# Altium footprint library PcbLib1.PcbLib: 35 footprints (part 2 of 3)
Each footprint in its own frame and in the unit in brackets; x right, y up, seen from the top. Pads: shape width x height; smd on the part's side, far side on the other; paste and mask are expansions set on the pad; w line width, h text height; cw(c..) or ccw(c..) is an arc to the next point about the centre after c.
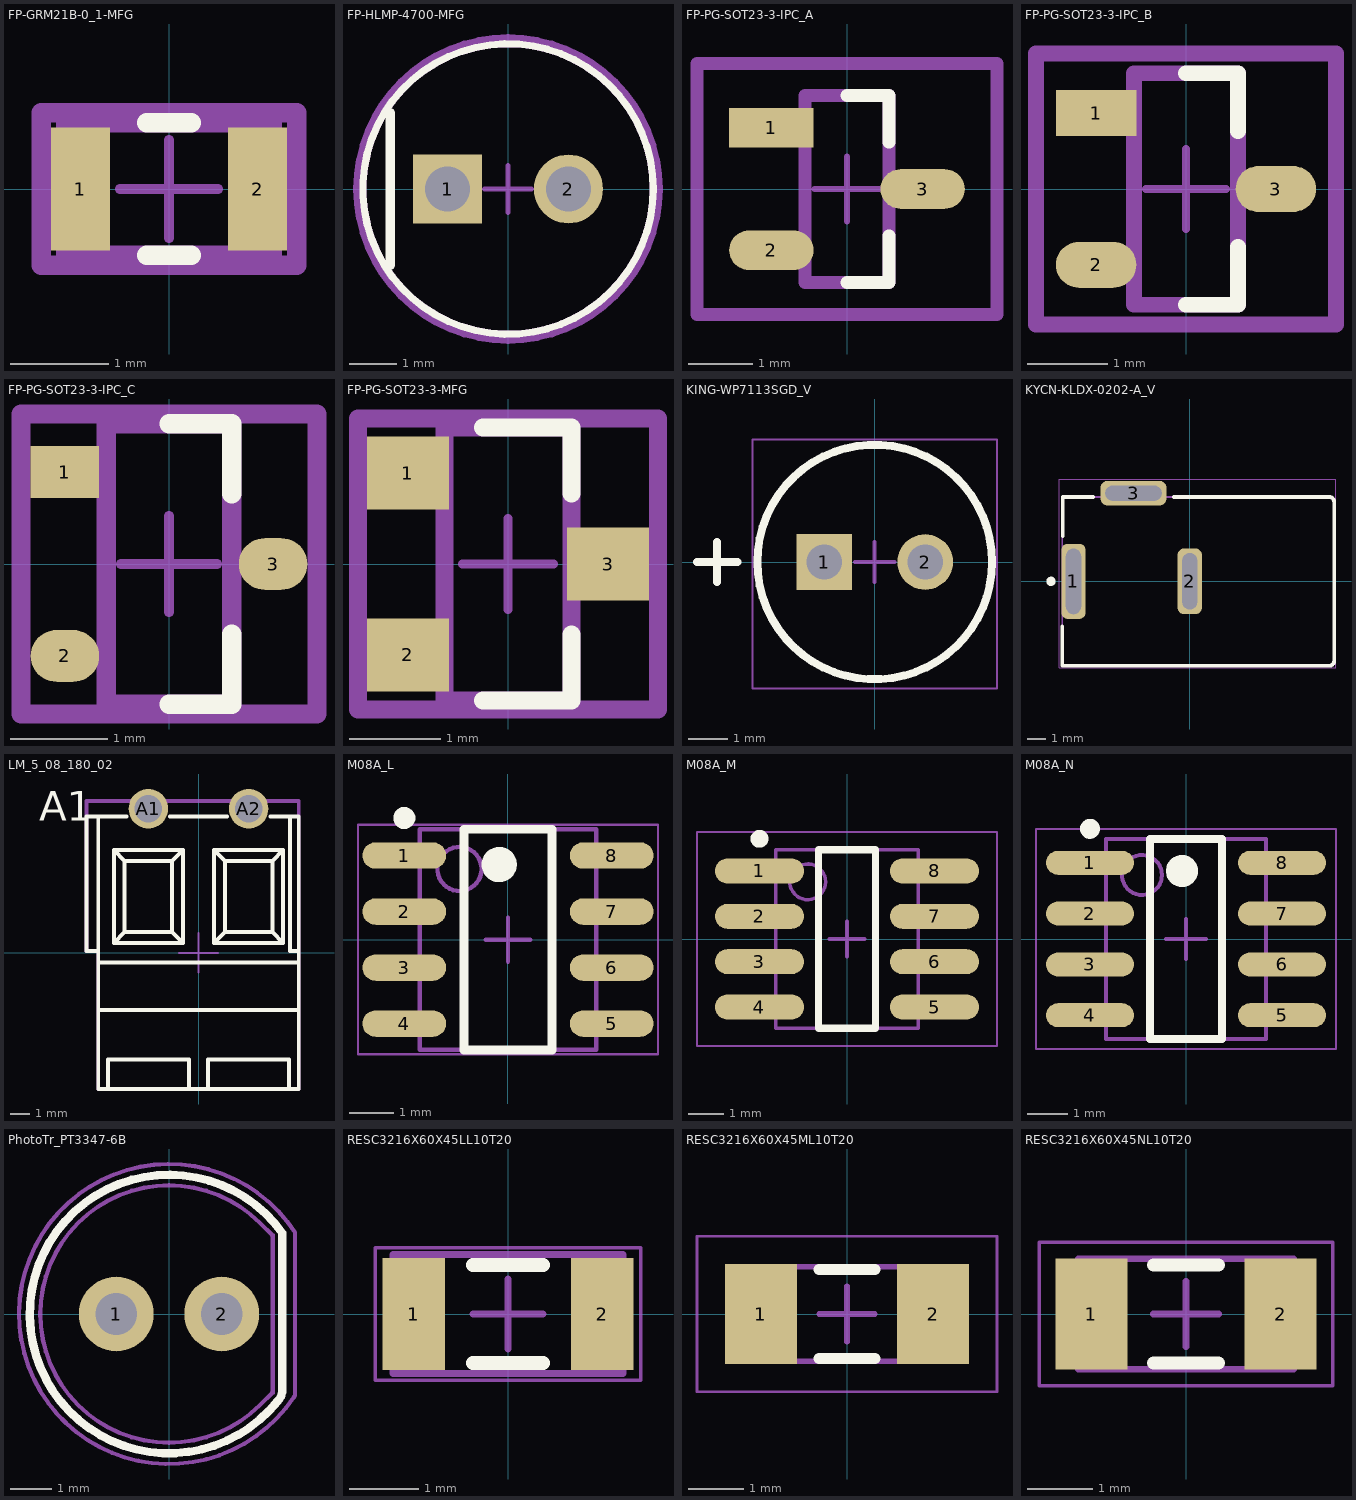
[diagram p1: the footprints below, top view; thin cyan lines are the x and y axes]

## FP-GRM21B-0_1-MFG [mm]
pads (2):
  rect 0.6x1.25 smd paste+0 mask+0: 1(-0.9,0) 2(0.9,0)
Top Overlay:
  lines w0.2: -0.225,-0.675 0.225,-0.675 ; -0.225,0.675 0.225,0.675
Top Assembly:
  lines w0.2: -1.3,-0.775 1.3,-0.775 1.3,0.775 -1.3,0.775 -1.3,-0.775
  text ".Designator" at 0,0.188 h1
Top 3D Body:
  lines w0.2: -1.05,-0.675 1.05,-0.675 1.05,0.675 -1.05,0.675 -1.05,-0.675
Top Courtyard:
  lines w0.2: -1.3,-0.775 1.3,-0.775 1.3,0.775 -1.3,0.775 -1.3,-0.775
Top Component Center:
  lines w0.1: -0.5,0 0.5,0 ; 0,-0.5 0,0.5
3D body "Cap_Murata_GRM21BR61C106KE15K_eec.STEP": height 0.25, standoff 0, extent -1.3,-0.775 1.3,0.775

## FP-HLMP-4700-MFG [mm]
pads (2):
  rect 1.45x1.45 hole 0.95 paste-2539.97 mask+0: 1(-1.27,0)
  round 1.45 hole 0.95 paste-2539.97 mask+0: 2(1.27,0)
Top Overlay:
  circle w0.15: c0,0 r3.05
  lines w0.2: -2.475,-1.6 -2.475,1.6
Top Assembly:
  text ".Designator" at 0,0.188 h1
Top 3D Body:
  circle w0.15: c0,0 r3.05
Top Courtyard:
  lines w0.2: -3.15,0 cw(c0,0) 3.15,0 cw(c0,0) -3.15,0
Top Component Center:
  lines w0.1: -0.5,0 0.5,0 ; 0,-0.5 0,0.5
3D body "Diode_Broadcom_HLMP-4700_eec.STEP": height 0.25, standoff 0, extent -3.15,-3.15 3.15,3.15

## FP-PG-SOT23-3-IPC_A [mm]
pads (3):
  rect 1.308x0.616 smd paste+0 mask+0: 1(-1.175,0.95)
  rrect100% 1.308x0.616 smd paste+0 mask+0: 2(-1.175,-0.95) 3(1.175,0)
Top Overlay:
  lines w0.2: 0,-1.45 0.65,-1.45 0.65,-0.725 ; 0,1.45 0.65,1.45 0.65,0.725
Top Assembly:
  lines w0.2: -2.329,-1.95 -2.329,1.95 2.329,1.95 2.329,-1.95 -2.329,-1.95
  text ".Designator" at 0,-0.001 h1
Top 3D Body:
  lines w0.2: -0.65,-1.45 -0.65,1.45 0.65,1.45 0.65,-1.45 -0.65,-1.45
Top Courtyard:
  lines w0.2: -2.329,-1.95 -2.329,1.95 2.329,1.95 2.329,-1.95 -2.329,-1.95
Top Component Center:
  lines w0.1: -0.5,0 0.5,0 ; 0,-0.5 0,0.5

## FP-PG-SOT23-3-IPC_B [mm]
pads (3):
  rect 1.008x0.576 smd paste+0 mask+0: 1(-1.125,0.95)
  rrect100% 1.008x0.576 smd paste+0 mask+0: 2(-1.125,-0.95) 3(1.125,0)
Top Overlay:
  lines w0.2: 0,-1.45 0.65,-1.45 0.65,-0.725 ; 0,1.45 0.65,1.45 0.65,0.725
Top Assembly:
  lines w0.2: -1.879,-1.7 1.879,-1.7 1.879,1.7 -1.879,1.7 -1.879,-1.7
  text ".Designator" at 0,-0.001 h1
Top 3D Body:
  lines w0.2: -0.65,-1.45 0.65,-1.45 0.65,1.45 -0.65,1.45 -0.65,-1.45
Top Courtyard:
  lines w0.2: -1.879,-1.7 1.879,-1.7 1.879,1.7 -1.879,1.7 -1.879,-1.7
Top Component Center:
  lines w0.1: -0.5,0 0.5,0 ; 0,-0.5 0,0.5

## FP-PG-SOT23-3-IPC_C [mm]
pads (3):
  rect 0.708x0.536 smd paste+0 mask+0: 1(-1.075,0.95)
  rrect100% 0.708x0.536 smd paste+0 mask+0: 2(-1.075,-0.95) 3(1.075,0)
Top Overlay:
  lines w0.2: 0,-1.45 0.65,-1.45 0.65,-0.725 ; 0,1.45 0.65,1.45 0.65,0.725
Top Assembly:
  lines w0.2: -1.529,-1.55 1.529,-1.55 1.529,1.55 -1.529,1.55 -1.529,-1.55
  text ".Designator" at 0,-0.001 h1
Top 3D Body:
  lines w0.2: -0.65,-1.45 0.65,-1.45 0.65,1.45 -0.65,1.45 -0.65,-1.45
Top Courtyard:
  lines w0.2: -1.529,-1.55 1.529,-1.55 1.529,1.55 -1.529,1.55 -1.529,-1.55
Top Component Center:
  lines w0.1: -0.5,0 0.5,0 ; 0,-0.5 0,0.5

## FP-PG-SOT23-3-MFG [mm]
pads (3):
  rect 0.9x0.8 smd paste+0 mask+0: 1(-1.1,1) 2(-1.1,-1) 3(1.1,0)
Top Overlay:
  lines w0.2: -0.275,-1.5 0.7,-1.5 0.7,-0.775 ; -0.275,1.5 0.7,1.5 0.7,0.775
Top Assembly:
  lines w0.2: -1.65,-1.6 1.65,-1.6 1.65,1.6 -1.65,1.6 -1.65,-1.6
  text ".Designator" at 0,-0.001 h1
Top 3D Body:
  lines w0.2: -0.7,-1.5 0.7,-1.5 0.7,1.5 -0.7,1.5 -0.7,-1.5
Top Courtyard:
  lines w0.2: -1.65,-1.6 1.65,-1.6 1.65,1.6 -1.65,1.6 -1.65,-1.6
Top Component Center:
  lines w0.1: -0.5,0 0.5,0 ; 0,-0.5 0,0.5
3D body "Trans_Infineon_2N7002H6327XTSA2_eec.STEP": height 0.25, standoff 0, extent -1.65,-1.6 1.65,1.6

## KING-WP7113SGD_V [mm] "THD, 2-Leads, Dia 5.9mm, Body Length 8.6mm"
height 15.5
pads (2):
  rect 1.4x1.4 hole 0.889: 1(-1.27,0)
  round 1.4 hole 0.889: 2(1.27,0)
Top Overlay:
  circle w0.2: c0,0 r2.95
  lines w0.2: -4.466,0 -3.45,0 ; -3.958,-0.508 -3.958,-0.254 -3.958,0.254 -3.958,0.508
Top 3D Body:
  circle w0.1: c0,0 r2.95
Top Courtyard:
  lines w0.05: -3.075,-3.175 3.075,-3.175 3.075,3.075 -3.075,3.075 -3.075,-3.175
  lines w0.1: -0.5,0 0.5,0 ; 0,-0.5 0,0.5
3D body "WP7113.STEP": height 15.5, standoff -20.1, extent -2.95,-2.95 2.5,2.95

## KYCN-KLDX-0202-A_V [mm] "Power Jack, 3-Leads, Body 14.5x9mm"
height 11.1
pads (3):
  rrect50% 1.3x4 hole 0.8 slot 3.5 at 90 deg: 1(-6.2,0)
  rrect50% 1.3x3.5 hole 0.8 slot 3 at 90 deg: 2(0,0)
  rrect50% 3.5x1.3 hole 0.8 slot 3 at 0 deg: 3(-3,4.7)
Top Overlay:
  circle w0.25: c-7.4,0 r0.125
  lines w0.2: -6.8,-4.5 -6.8,-2.4 ; -6.78,-4.5 7.45,-4.5 ccw(c7.45,-4.25) 7.7,-4.25 7.7,4.25 ccw(c7.45,4.25) 7.45,4.5 -0.85,4.5 ; -6.78,2.4 -6.78,4.5 -5.15,4.5
Top 3D Body:
  lines w0.1: -6.8,-4.5 -6.8,4.5 7.45,4.5 cw(c7.45,4.25) 7.7,4.25 7.7,-4.25 cw(c7.45,-4.25) 7.45,-4.5 -6.8,-4.5
Top Courtyard:
  lines w0.05: -6.95,-4.6 7.8,-4.6 7.8,5.45 -6.95,5.45 -6.95,-4.6
  lines w0.1: -0.5,0 0.5,0 ; 0,-0.5 0,0.5
3D body "KLDX-0202-A_rD2.STEP": height 10.8, standoff -4.1, extent -6.8,-4.5 7.7,4.9

## LM_5_08_180_02 [mm] "OMNIMATE Signal - Serie LM  LM 5.08/02/180 3.5"
height 10
pads (2):
  round 2 hole 1.4: A1(-2.54,7.3) A2(2.54,7.3)
Top Overlay:
  lines w0.2: -5.08,-3.107 -5.08,-6.9 ; -5.08,-3.106 -5.08,-3.101 ; -5.08,-3.098 -5.08,6.9 ; -5.08,-2.9 5.08,-2.9 ; -5.08,-0.498 5.08,-0.498 ; -5.08,0.1 -5.68,0.1 -5.68,6.9 -3.64,6.9 -5.08,6.9 ; 4.63,6.9 4.63,0.1 5.08,0.1 ; 5.08,-3.107 5.08,-6.9 ; 5.08,-3.106 5.08,-3.101 ; 5.08,-3.098 5.08,6.9 ; -5.08,-6.9 -5.08,6.9 ; -5.08,-6.9 5.08,-6.9 ; -4.29,0.5 -0.79,0.5 ; -4.29,0.5 -3.744,1.046 ; -4.29,0.5 -4.29,5.2 ; -4.29,5.2 -3.744,4.654 ; -4.29,5.2 -0.79,5.2 ; -3.744,1.046 -1.336,1.046 ; -3.744,1.046 -3.744,4.654 ; -3.744,4.654 -1.336,4.654 ; -1.336,1.046 -0.79,0.5 ; -1.336,1.046 -1.336,4.654 ; -1.336,4.654 -0.79,5.2 ; -0.79,0.5 -0.79,5.2 ; 0.79,0.5 4.29,0.5 ; 0.79,0.5 1.336,1.046 ; 0.79,0.5 0.79,5.2 ; 0.79,5.2 1.336,4.654 ; 0.79,5.2 4.29,5.2 ; 1.336,1.046 3.744,1.046 ; 1.336,1.046 1.336,4.654 ; 1.336,4.654 3.744,4.654 ; 3.744,1.046 4.29,0.5 ; 3.744,1.046 3.744,4.654 ; 3.744,4.654 4.29,5.2 ; 4.29,0.5 4.29,5.2 ; 4.59,-6.9 4.59,-5.4 ; 4.59,-6.9 4.59,-5.4 ; 4.59,-6.9 0.49,-6.9 0.49,-5.4 4.59,-5.4 ; 5.08,-6.9 5.08,6.9 ; 5.08,6.9 3.64,6.9 5.08,6.9 ; -4.59,-6.9 -4.59,-5.4 -0.49,-5.4 -0.49,-6.9 -4.59,-6.9 ; -1.44,6.9 1.44,6.9 -1.44,6.9
  text "A1" at -8.07,6.7 h1.5
Top Courtyard:
  lines w0.1: -1,0 1,0 ; 0,-1 0,1 ; 5.08,-1 5.08,1
  lines w0.2: -5.08,-3.107 -5.08,-6.9 5.08,-6.9 5.08,-3.107 ; -5.08,-3.098 -5.08,0.1 -5.68,0.1 -5.68,7.7 5.08,7.7 5.08,-3.098
3D body "LM_5.08_2_180_3.5_OR_1716100000.stp": height 10.01, standoff -3.49, extent -5.68,-6.9 5.08,7.7

## M08A_L [mm] "SOIC, 8-Leads, Body 4.9x3.9mm, Pitch 1.27mm, IPC High Density"
height 1.75
pads (8):
  oval 1.9x0.6 smd: 1(-2.35,1.905) 2(-2.35,0.635) 3(-2.35,-0.635) 4(-2.35,-1.905) 5(2.35,-1.905) 6(2.35,-0.635) 7(2.35,0.635) 8(2.35,1.905)
Top Overlay:
  circle w0.4: c-0.2,1.7 r0.2
  circle w0.25: c-2.35,2.755 r0.125
  lines w0.2: -1,-2.5 1,-2.5 1,2.5 -1,2.5 -1,-2.5
Top 3D Body:
  circle w0.1: c-1.1,1.6 r0.5
  lines w0.1: -2,-2.5 2,-2.5 2,2.5 -2,2.5 -2,-2.5
Top Courtyard:
  lines w0.05: -3.4,-2.6 3.4,-2.6 3.4,2.6 -3.4,2.6 -3.4,-2.6
  lines w0.1: -0.5,0 0.5,0 ; 0,-0.5 0,0.5
3D body: height 1.75, standoff 0.1, extent -2,-2.5 2,2.5

## M08A_M [mm] "SOIC, 8-Leads, Body 4.9x3.9mm, Pitch 1.27mm, IPC Low Density"
height 1.75
pads (8):
  oval 2.5x0.7 smd: 1(-2.45,1.905) 2(-2.45,0.635) 3(-2.45,-0.635) 4(-2.45,-1.905) 5(2.45,-1.905) 6(2.45,-0.635) 7(2.45,0.635) 8(2.45,1.905)
Top Overlay:
  circle w0.25: c-2.45,2.805 r0.125
  lines w0.2: -0.8,-2.5 0.8,-2.5 0.8,2.5 -0.8,2.5 -0.8,-2.5
Top 3D Body:
  circle w0.1: c-1.1,1.6 r0.5
  lines w0.1: -2,-2.5 2,-2.5 2,2.5 -2,2.5 -2,-2.5
Top Courtyard:
  lines w0.05: -4.2,-3 4.2,-3 4.2,3 -4.2,3 -4.2,-3
  lines w0.1: -0.5,0 0.5,0 ; 0,-0.5 0,0.5
3D body: height 1.75, standoff 0.1, extent -2,-2.5 2,2.5

## M08A_N [mm] "SOIC, 8-Leads, Body 4.9x3.9mm, Pitch 1.27mm, IPC Medium Density"
height 1.75
pads (8):
  oval 2.2x0.6 smd: 1(-2.4,1.905) 2(-2.4,0.635) 3(-2.4,-0.635) 4(-2.4,-1.905) 5(2.4,-1.905) 6(2.4,-0.635) 7(2.4,0.635) 8(2.4,1.905)
Top Overlay:
  circle w0.4: c-0.1,1.7 r0.2
  circle w0.25: c-2.4,2.755 r0.125
  lines w0.2: -0.9,-2.5 0.9,-2.5 0.9,2.5 -0.9,2.5 -0.9,-2.5
Top 3D Body:
  circle w0.1: c-1.1,1.6 r0.5
  lines w0.1: -2,-2.5 2,-2.5 2,2.5 -2,2.5 -2,-2.5
Top Courtyard:
  lines w0.05: -3.75,-2.75 3.75,-2.75 3.75,2.75 -3.75,2.75 -3.75,-2.75
  lines w0.1: -0.5,0 0.5,0 ; 0,-0.5 0,0.5
3D body: height 1.75, standoff 0.1, extent -2,-2.5 2,2.5

## PhotoTr_PT3347-6B [mm]
height 10.4
pads (2):
  round 1.8 hole 1: 1(-1.27,0) 2(1.27,0)
Top Overlay:
  lines w0.2: 2.619,-2.095 ccw(c2.353,-1.829) 2.729,-1.829 2.729,1.95 ccw(c0,0) 2.619,-2.095
Top Assembly:
  lines w0.1: 2.473,-1.911 cw(c2.5,-1.938) 2.5,-1.9 ; 2.473,1.911 ccw(c2.5,1.938) 2.5,1.9 ; 2.192,-2.192 cw(c0,0) 2.192,2.192 2.5,1.884 2.5,-1.884 2.192,-2.192
Top Courtyard:
  lines w0.1: 3.006,-2.004 ccw(c2.934,-1.932) 3.036,-1.932 3.036,1.958 ccw(c0,0) 3.006,-2.004
3D body: height 2.7, standoff 1.5, extent -3.1,-3.11 2.5,3.11
3D body: height 11.9, standoff 1.5, extent -2.5,-2.5 2.5,2.5

## RESC3216X60X45LL10T20 [mm] "Chip Resistor, 2-Leads, Body 3.20x1.60mm, IPC High Density"
height 0.6
pads (2):
  rect 0.9x1.6 smd: 1(-1.35,0) 2(1.35,0)
Top Overlay:
  lines w0.2: -0.5,-0.7 0.5,-0.7 ; -0.5,0.7 0.5,0.7
Top 3D Body:
  lines w0.1: -1.65,-0.85 -1.65,0.85 1.65,0.85 1.65,-0.85 -1.65,-0.85
Top Courtyard:
  lines w0.05: -1.9,-0.95 -1.9,0.95 1.9,0.95 1.9,-0.95 -1.9,-0.95
  lines w0.1: -0.5,0 0.5,0 ; 0,-0.5 0,0.5
3D body: height 0.6, standoff 0, extent -1.2,-0.85 1.2,0.85
3D body: height 0.6, standoff 0, extent -1.65,-0.85 -1.2,0.85
3D body: height 0.6, standoff 0, extent 1.2,-0.85 1.65,0.85

## RESC3216X60X45ML10T20 [mm] "Chip Resistor, 2-Leads, Body 3.20x1.60mm, IPC Low Density"
height 0.6
pads (2):
  rect 1.3x1.8 smd: 1(-1.55,0) 2(1.55,0)
Top Overlay:
  lines w0.2: -0.5,-0.8 0.5,-0.8 ; -0.5,0.8 0.5,0.8
Top 3D Body:
  lines w0.1: -1.65,-0.85 1.65,-0.85 1.65,0.85 -1.65,0.85 -1.65,-0.85
Top Courtyard:
  lines w0.05: -2.7,-1.4 2.7,-1.4 2.7,1.4 -2.7,1.4 -2.7,-1.4
  lines w0.1: -0.5,0 0.5,0 ; 0,-0.5 0,0.5
3D body: height 0.6, standoff 0, extent 1.2,-0.85 1.65,0.85
3D body: height 0.6, standoff 0, extent -1.65,-0.85 -1.2,0.85
3D body: height 0.6, standoff 0, extent -1.2,-0.85 1.2,0.85

## RESC3216X60X45NL10T20 [mm] "Chip Resistor, 2-Leads, Body 3.20x1.60mm, IPC Medium Density"
height 0.6
pads (2):
  rect 1.1x1.7 smd: 1(-1.45,0) 2(1.45,0)
Top Overlay:
  lines w0.2: -0.5,-0.75 0.5,-0.75 ; -0.5,0.75 0.5,0.75
Top 3D Body:
  lines w0.1: -1.65,-0.85 -1.65,0.85 1.65,0.85 1.65,-0.85 -1.65,-0.85
Top Courtyard:
  lines w0.05: -2.25,-1.1 -2.25,1.1 2.25,1.1 2.25,-1.1 -2.25,-1.1
  lines w0.1: -0.5,0 0.5,0 ; 0,-0.5 0,0.5
3D body: height 0.6, standoff 0, extent -1.2,-0.85 1.2,0.85
3D body: height 0.6, standoff 0, extent -1.65,-0.85 -1.2,0.85
3D body: height 0.6, standoff 0, extent 1.2,-0.85 1.65,0.85